# Altium footprint library externaBoard_lib.PcbLib: 2 footprints
Each footprint in its own frame and in the unit in brackets; x right, y up, seen from the top. Pads: shape width x height; smd on the part's side, far side on the other; paste and mask are expansions set on the pad; w line width, h text height; cw(c..) or ccw(c..) is an arc to the next point about the centre after c.
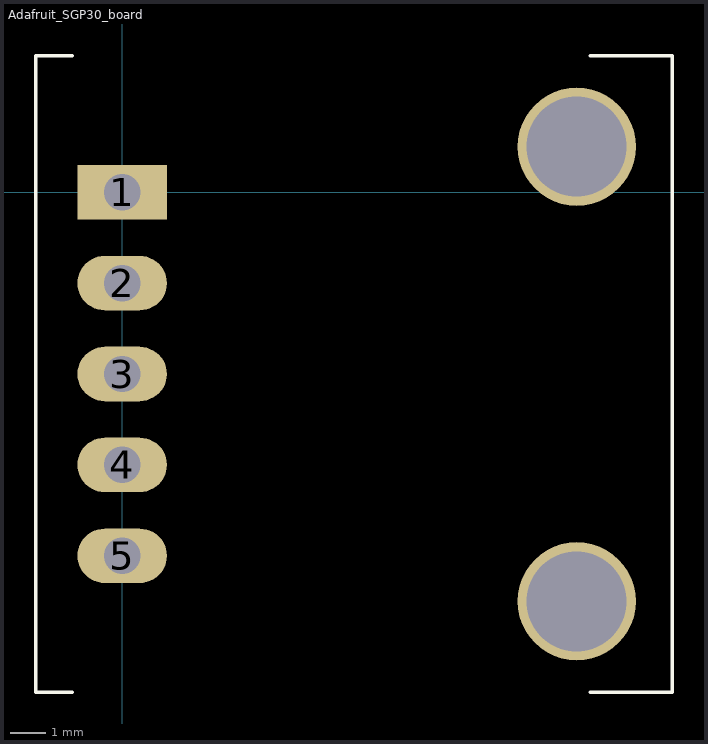
[diagram p0: the footprints below, top view; thin cyan lines are the x and y axes]

## Adafruit_SGP30_board [mil] "Adafruit SGP30 AIR QUALITY SENSOR BREAKOU, 5 pins, I2C"
pads (7):
  rect 98.43x60 hole 40: 1(0,0)
  oval 98.43x60 hole 40: 2(0,-100) 3(0,-200) 4(0,-300) 5(0,-400)
  round 130 hole 110 unplated paste+0 mask+4: ""(500,-450) ""(500,50)
Top Overlay:
  lines w3.94: -55,-550 -95,-550 -95,-460 -95,-420 -95,-263.75 -95,-51.25 -95,110 -95,150 -55,150 ; 515,-550 605,-550 605,-510 605,-348.75 605,-136.25 605,20 605,60 605,150 515,150

## PCBComponent_1 [mil]